# Altium footprint library Robot_2020.PcbLib: 89 footprints (part 3 of 6)
Each footprint in its own frame and in the unit in brackets; x right, y up, seen from the top. Pads: shape width x height; smd on the part's side, far side on the other; paste and mask are expansions set on the pad; w line width, h text height; cw(c..) or ccw(c..) is an arc to the next point about the centre after c.
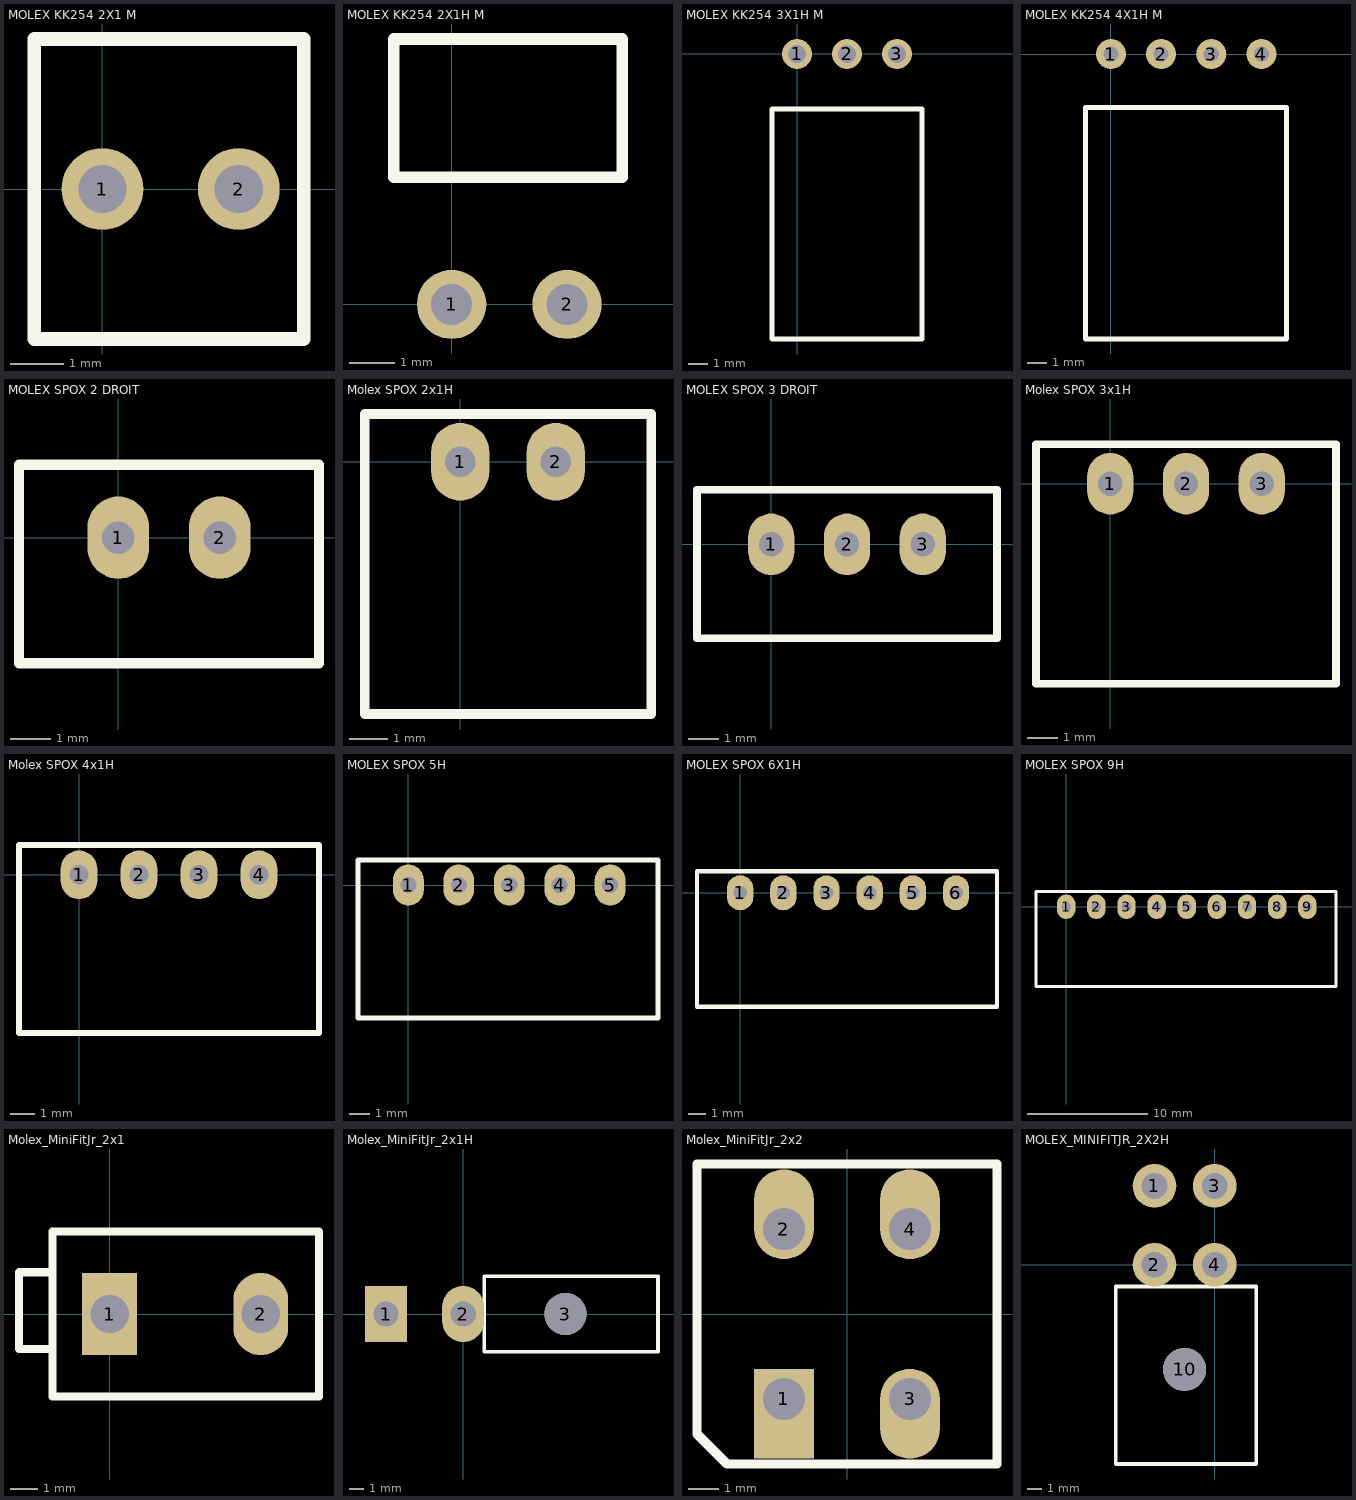
[diagram p2: the footprints below, top view; thin cyan lines are the x and y axes]

## MOLEX KK254 2X1 M [mil]
height 228.35
pads (2):
  round 60 hole 35.43: 1(0,0) 2(100,0)
Top Overlay:
  lines w10: -50,-110 147.64,-110 147.64,110 -50,110 -50,-110
3D body "Molex_KK254_2.stp": height 461.13, standoff -139.65, extent -50,-114.17 150,114.17

## MOLEX KK254 2X1H M [mil] "22-05-7028"
height 228.35
pads (2):
  round 60 hole 35.43: 1(0,0) 2(100,0)
Top Overlay:
  lines w10: -50,110 -50,230 147.64,230 147.64,110 -50,110
3D body "Molex_KK254_2H.stp": height 230.5, standoff -149.11, extent -50.01,-12.09 149.99,568.13

## MOLEX KK254 3X1H M [mil]
height 228.35
pads (3):
  round 60 hole 35.43: 1(0,0) 2(100,0) 3(200,0)
Top Overlay:
  lines w10: -50,-570.87 -50,-110.24 250,-110.24 250,-570.87 -50,-570.87
3D body "molex_22_12_4032.stp": height 230.5, standoff -149.11, extent -50,-569.64 250,10.58

## MOLEX KK254 4X1H M [mil]
height 228.35
pads (4):
  round 60 hole 30: 1(0,0) 2(100,0) 3(200,0) 4(300,0)
Top Overlay:
  lines w10: -50.39,-568.41 -50.39,-106.3 349.61,-106.3 349.61,-568.41 -50.39,-568.41
3D body "molex_22_12_4042.stp": height 230.5, standoff -149.11, extent -50.39,-568.41 349.61,11.81

## MOLEX SPOX 2 DROIT [mil]
pads (2):
  oval 60x80 hole 31.5: 1(0,0) 2(98.43,0)
Top Overlay:
  lines w10: -96.46,-122.05 194.88,-122.05 194.88,70.87 -96.46,70.87 -96.46,-122.05

## Molex SPOX 2x1H [mil] "Prise CI, Molex, 3 Contacts, 1 rangée, entraxe 2.5mm, 3A, Coudé, ref 22-03-5035"
height 192.91
pads (2):
  oval 60x80 hole 31.5: 1(0,0) 2(98.43,0)
Top Overlay:
  lines w10: -98.43,-259.84 -98.43,49.21 196.85,49.21 196.85,-259.84 -98.43,-259.84
3D body "molex_spox_2H.stp": height 193.41, standoff -137.3, extent -98.43,-261.81 192.92,49.21

## MOLEX SPOX 3 DROIT [mil]
pads (3):
  oval 60x80 hole 31.5: 1(0,0) 2(98.43,0) 3(196.85,0)
Top Overlay:
  lines w10: -96.46,-122.05 -96.46,70.87 293.31,70.87 293.31,-122.05 -96.46,-122.05

## Molex SPOX 3x1H [mil] "Prise CI, Molex, 3 Contacts, 1 rangée, entraxe 2.5mm, 3A, Coudé, ref 22-03-5035"
height 192.91
pads (3):
  oval 60x80 hole 31.5: 1(0,0) 2(98.43,0) 3(196.85,0)
Top Overlay:
  lines w10: -96.46,-259.84 -96.46,51.18 293.31,51.18 293.31,-259.84 -96.46,-259.84
3D body "molex_spox_3H.stp": height 193.41, standoff -137.3, extent -96.46,-260.03 293.31,51

## Molex SPOX 4x1H [mil] "Prise CI, Molex, 3 Contacts, 1 rangée, entraxe 2.5mm, 3A, Coudé, ref 22-03-5035"
height 192.91
pads (4):
  oval 60x80 hole 31.5: 1(0,0) 2(98.43,0) 3(196.85,0) 4(295.28,0)
Top Overlay:
  lines w10: -98.43,-259.84 -98.43,49.21 393.7,49.21 393.7,-259.84 -98.43,-259.84
3D body "molex_spox_4H.stp": height 193.41, standoff -137.3, extent -98.42,-261.81 389.77,49.21

## MOLEX SPOX 5H [mil]
pads (5):
  oval 60x80 hole 31.5: 1(0,0) 2(98.43,0) 3(196.85,0) 4(295.28,0) 5(393.7,0)
Top Overlay:
  lines w10: -98.43,-259.84 -98.43,49.21 487.2,49.21 487.2,-259.84 -98.43,-259.84

## MOLEX SPOX 6X1H [mil] "MOLEX SPOX 6X1H, 22-05-7065"
height 192.91
pads (6):
  oval 60x80 hole 31.5: 1(0,0) 2(98.43,0) 3(196.85,0) 4(295.28,0) 5(393.7,0) 6(492.13,0)
Top Overlay:
  lines w10: -98.43,-259.84 -98.43,49.21 585.63,49.21 585.63,-259.84 -98.43,-259.84
3D body "molex_spox_6H.stp": height 193.41, standoff -137.3, extent -95.47,-259.84 589.56,51.18

## MOLEX SPOX 9H [mil]
pads (9):
  oval 60x80 hole 31.5: 1(0,0) 2(98.43,0) 3(196.85,0) 4(295.28,0) 5(393.7,0) 6(492.13,0) 7(590.55,0) 8(688.98,0) 9(787.4,0)
Top Overlay:
  lines w10: -98.43,-259.84 880.91,-259.84 880.91,49.21 -98.43,49.21 -98.43,-259.84

## Molex_MiniFitJr_2x1 [mm] "Connecteur Molex 2"
pads (2):
  rect 2x3 hole 1.4: 1(0,0)
  oval 2x3 hole 1.4: 2(5.5,0)
Top Overlay:
  lines w0.3: -2.286,-1.27 -3.302,-1.27 -3.302,1.524 -2.286,1.524 ; -2.08,-3 -2.08,-1.778 -2.08,3 7.62,3 7.62,-3 -2.08,-3
3D body "Molex_MinifitJr_2D.stp": height 12.61, standoff -3.69, extent -3.302,-3.1 7.698,3.1

## Molex_MiniFitJr_2x1H [mm] "Connecteur Molex 2"
height 10
pads (3):
  rect 3x4 hole 1.8: 1(-5.5,0)
  oval 3x4 hole 1.8: 2(0,0)
  round 3 hole 3 unplated: 3(7.3,0)
Top Overlay:
  lines w0.254: 8.5,-2.7 1.5,-2.7 ; 1.5,-2.7 13.9,-2.7 13.9,2.7 1.5,2.7 1.5,-2.7
3D body "molex_minifitjr_2x1H.stp": height 11.01, standoff -3.99, extent -6.035,-2.7 13.9,3.1

## Molex_MiniFitJr_2x2 [mm] "Conecteur puissance 2x2"
pads (4):
  rect 2x3 hole 1.4 copper offset 0,-0.5: 1(-2.1,-2.825)
  oval 2x3 hole 1.4 copper offset 0,0.5: 2(-2.1,2.825) 4(2.1,2.825)
  oval 2x3 hole 1.4 copper offset 0,-0.5: 3(2.1,-2.825)
Top Overlay:
  lines w0.3: -5,-4 -4,-5 5,-5 5,5 -5,5 -5,-4

## MOLEX_MINIFITJR_2X2H [mm] "MOLEX_MINIFITJR_3X2, 39-30-1060"
height 9.6
pads (5):
  round 3.048 hole 1.8: 1(-4.2,5.5) 2(-4.2,0) 3(0,5.5) 4(0,0)
  round 3 hole 3 unplated: 10(-2.1,-7.3)
Top Overlay:
  lines w0.254: -6.9,-13.9 -6.9,-1.524 2.9,-1.524 2.9,-13.9 -6.9,-13.9
3D body "39301040.stp": height 11.4, standoff -3.6, extent -6.876,-13.904 3.124,6.03